# EAGLE library part HEADER_01X14 (library MF_Connectors)
Library: MF_Connectors Description: Header Connector with 14 Positions and 01 Rows. Use the LABEL Attribute to label the pin on the schematic and PCB. You can remove the attributes on the PCB by using the SMASH function on the part and then deleting the text.
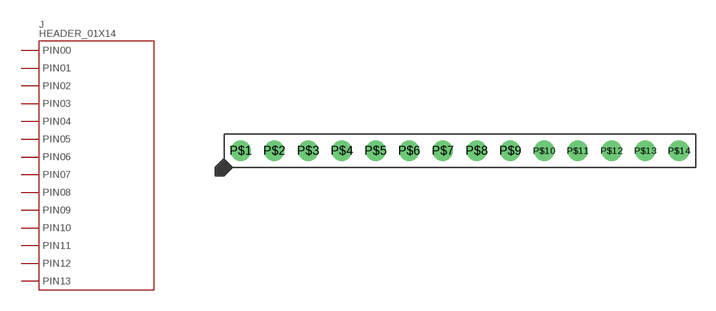
[diagram p10: symbol with the pads of PTH_2.54MM_01X14; footprint PTH_2.54MM_01X14]

Designator prefix J

## HEADER_01X14_PTH_2.54MM  [PTH_2.54MM_01X14]
P$1  PIN0
P$2  PIN1
P$3  PIN2
P$4  PIN3
P$5  PIN4
P$6  PIN5
P$7  PIN6
P$8  PIN7
P$9  PIN8
P$10  PIN9
P$11  PIN10
P$12  PIN11
P$13  PIN12
P$14  PIN13

## Footprint PTH_2.54MM_01X14 (pad centres in mm)
Description: Package for 2.54MM Pitch Header 14 Position. Based on 4UCON 00834.
drill 1: P$1 -16.51,0; P$2 -13.97,0; P$3 -11.43,0; P$4 -8.89,0; P$5 -6.35,0; P$6 -3.81,0; P$7 -1.27,0; P$8 1.27,0; P$9 3.81,0; P$10 6.35,0; P$11 8.89,0; P$12 11.43,0; P$13 13.97,0; P$14 16.51,0